# Altium footprint library 接插杂件封装库.PcbLib: 41 footprints (part 3 of 3)
Each footprint in its own frame and in the unit in brackets; x right, y up, seen from the top. Pads: shape width x height; smd on the part's side, far side on the other; paste and mask are expansions set on the pad; w line width, h text height; cw(c..) or ccw(c..) is an arc to the next point about the centre after c.
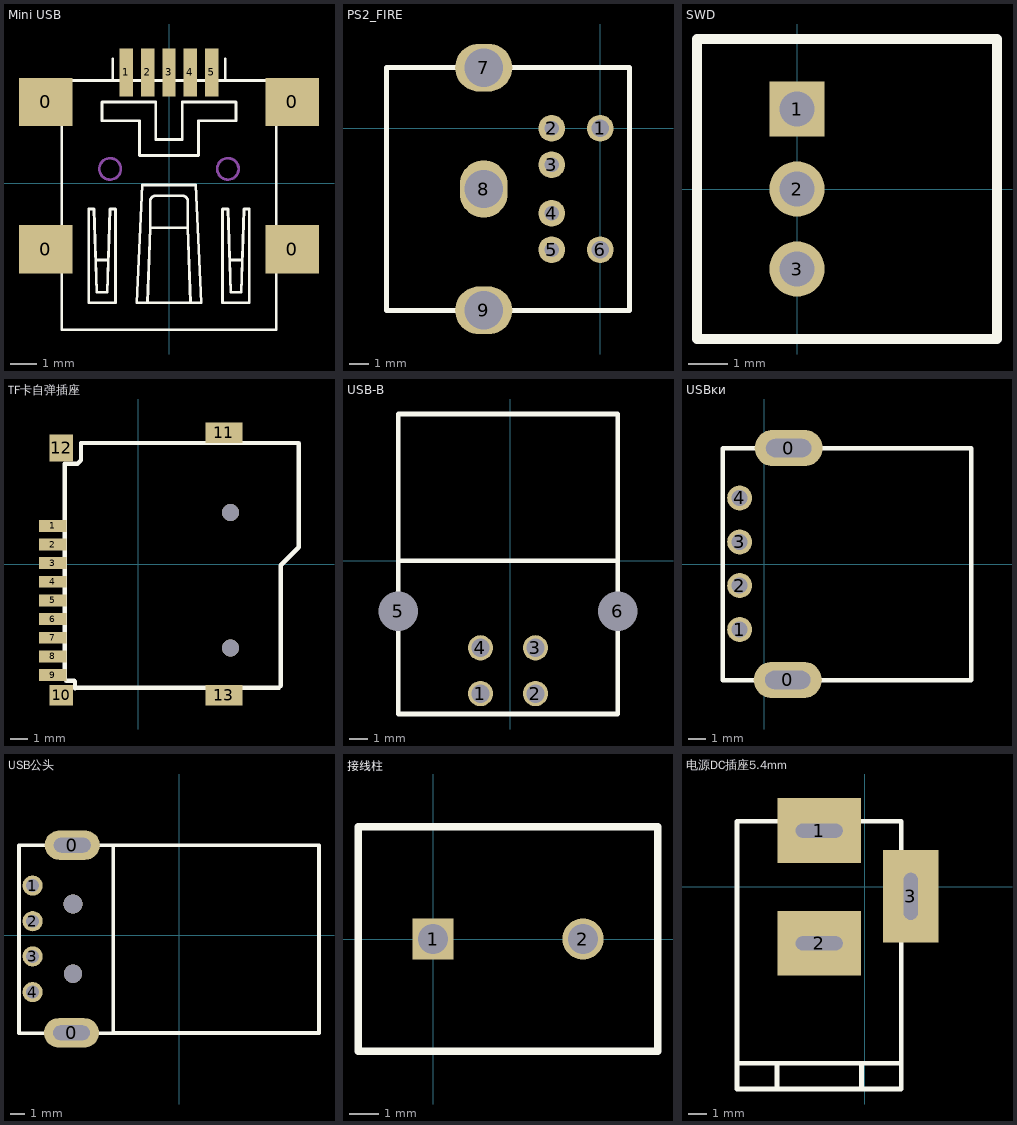
[diagram p2: the footprints below, top view; thin cyan lines are the x and y axes]

## Mini USB [mm]
pads (9):
  rect 2x1.8 smd: 0(-4.6,-2.461) 0(-4.6,3.039) 0(4.6,-2.461) 0(4.6,3.039)
  rect 0.5x1.8 smd: 1(-1.6,4.139) 2(-0.8,4.139) 3(0,4.139) 4(0.8,4.139) 5(1.6,4.139)
Top Overlay:
  lines w0.1: -4,-3.261 -5,-3.261 -5,-2.861 ccw(c-5,-2.461) -5,-2.061 -5,-1.661 -4,-1.661 ; -4,2.239 -5,2.239 -5,2.639 ccw(c-5,3.039) -5,3.439 -5,3.839 5,3.839 5,3.439 ccw(c5,3.039) 5,2.639 5,2.239 4,2.239 ; -4,3.839 -4,-5.461 4,-5.461 4,3.839 ; -2.7,-2.861 -2.3,-2.861 ; -2.1,3.839 -2.1,4.639 ; -0.8,-4.461 -0.7,-1.661 ; 0.8,-4.461 0.7,-1.661 ; 2.1,3.839 2.1,4.639 ; 2.3,-2.861 2.7,-2.861 ; 4,-3.261 5,-3.261 5,-2.861 cw(c5,-2.461) 5,-2.061 5,-1.661 4,-1.661 ; -0.7,-1.661 0.7,-1.661 ; -0.7,-1.661 -0.7,-0.661 cw(c-0.5,-0.661) -0.5,-0.461 0.5,-0.461 cw(c0.5,-0.661) 0.7,-0.661 0.7,-1.661 ; -3,-4.461 -3,-0.961 -2.8,-0.961 -2.7,-4.061 -2.3,-4.061 -2.2,-0.961 -2,-0.961 -2,-4.461 -3,-4.461 ; -2.5,2.339 -2.5,3.039 -0.5,3.039 -0.5,1.639 0.5,1.639 0.5,3.039 2.5,3.039 2.5,2.339 1.1,2.339 1.1,1.039 -1.1,1.039 -1.1,2.339 -2.5,2.339 ; -1.2,-4.461 -1,-0.061 1,-0.061 1.2,-4.461 -1.2,-4.461 ; 2,-4.461 3,-4.461 3,-0.961 2.8,-0.961 2.7,-4.061 2.3,-4.061 2.2,-0.961 2,-0.961 2,-4.461
Mechanical 1:
  circle w0.1: c2.2,0.539 r0.4
  circle w0.1: c-2.2,0.539 r0.4

## PS2_FIRE [mil]
pads (9):
  round 55 hole 35.44: 1(0,0) 6(0,-250)
  round 55 hole 30: 2(-100,0) 3(-100,-75) 4(-100,-175) 5(-100,-250)
  oval 118.11x98.43 hole 78.74: 7(-240,125) 9(-240,-375)
  oval 98.43x118.11 hole 78.74: 8(-240,-125)
Top Overlay:
  lines w10: -440,-375 60,-375 60,125 -440,125 -440,-375

## SWD [mil]
pads (3):
  rect 55x55 hole 35.43: 1(0,80)
  round 55 hole 35.43: 2(0,0) 3(0,-80)
Top Overlay:
  lines w10: -100,-150 -100,150 200,150 200,-150 -100,-150

## TF卡自弹插座 [mm]
pads (13):
  rect 1.6x0.7 smd: 1(-5.05,2.25) 2(-5.05,1.15) 3(-5.05,0.05) 4(-5.05,-1.05) 5(-5.05,-2.15) 6(-5.05,-3.25) 7(-5.05,-4.35) 8(-5.05,-5.45) 9(-5.05,-6.55)
  rect 1.4x1.2 smd: 10(-4.55,-7.75)
  rect 2.2x1.2 smd: 11(5.05,7.75) 13(5.05,-7.75)
  rect 1.4x1.6 smd: 12(-4.55,6.85)
via 5.45,3.05 diameter 1 hole 1
via 5.45,-4.95 diameter 1 hole 1
Top Overlay:
  lines w0.254: 9.45,7.134 -3.383,7.134 -3.383,6.118 -3.586,5.915 -4.348,5.915 -4.348,-6.785 -4.246,-6.886 -3.789,-6.886 -3.738,-6.937 -3.738,-7.344 -3.688,-7.293 8.301,-7.293 8.403,-7.191 8.403,-0.079 9.47,0.988 9.47,7.13

## USB-B [mil]
pads (6):
  round 55 hole 40: 1(-65.12,-290) 2(55,-290) 3(55,-190) 4(-65.12,-190)
  round 55 hole 86: 5(-245,-110) 6(235,-110)
Top Overlay:
  lines w10: -245,0.47 235,0.47 ; -245,-334.53 235,-334.53 235,320.47 -245,320.47 -245,-334.53

## USBĸͷ [mil]
pads (6):
  oval 150x80 hole 40 slot 100 at 0 deg: 0(52,-255.5) 0(54,255.5)
  round 55 hole 35: 1(-54,-144.5) 2(-54,-47.5) 3(-54,48.5) 4(-54,145.5)
Top Overlay:
  lines w10: 455.08,-256.5 -91,-256.5 -91,254.5 -90,255.5 456,255.5 456,-255.58

## USB公头 [mil]
pads (6):
  oval 150x80 hole 40 slot 100 at 0 deg: 0(-294,-266) 0(-292,245)
  round 55 hole 35: 1(-400,135) 2(-400,38) 3(-400,-58) 4(-400,-155)
via -290,85 diameter 51 hole 51
via -290,-105 diameter 50 hole 50
Top Overlay:
  lines w10: -180,-266.57 -437,-267 -437,244 -436,245 -180,245 ; -180,-266.57 -180,245 ; -180,-266.57 380,-266.57 380,245 -180,245

## 接线柱 [mil]
pads (2):
  rect 55x55 hole 40: 1(0,0)
  round 55 hole 40: 2(200,0)
Top Overlay:
  lines w10: -100,-150 -100,150 300,150 300,-150 -100,-150

## 电源DC插座5.4mm [mil]
pads (3):
  rect 177.17x137.8 hole 30 slot 100 at 0 deg: 1(-97.5,120) 2(-97.5,-120)
  rect 118.11x196.85 hole 30 slot 100 at 90 deg: 3(97.5,-20)
Top Overlay:
  lines w10: -272.5,-375 77.5,-375 ; -187.5,-430 -187.5,-375 ; -7.5,-430 -7.5,-375 ; -272.5,-430 -272.5,140 77.5,140 77.5,-430 -272.5,-430